# Altium integrated library RC0805JR-072KL(2k_0805).IntLib: 1 symbol
Pins are listed as number, name and electrical type; pins without a type are passive.

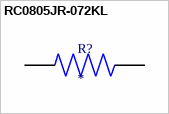
[diagram p0: symbol RC0805JR-072KL]

## RC0805JR-072KL
designator R?
THICK FILM RESISTOR, 2KOHM, 125mW, 5%, F; MP: RC0805JR-072KL; Package: None; Price: None; Value: *; Availability: Unavailable
footprint RESC2012X60N
pins: 1, 2